# Altium integrated library 08055C471JAT2A.IntLib: 1 symbol
Pins are listed as number, name and electrical type; pins without a type are passive.

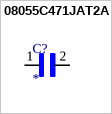
[diagram p0: symbol 08055C471JAT2A]

## 08055C471JAT2A
designator C?
Cap Ceramic 470pF 50V X7R 5% SMD 0805 125Ã‚Â°C Paper T/R; MP: 08055C471JAT2A; Package: None; Price: None; Value: *; Availability: Unavailable
footprint CAPC2012X94N
pins: 1, 2